# Altium footprint library THT12X6.PcbLib: 1 footprints
Each footprint in its own frame and in the unit in brackets; x right, y up, seen from the top. Pads: shape width x height; smd on the part's side, far side on the other; paste and mask are expansions set on the pad; w line width, h text height; cw(c..) or ccw(c..) is an arc to the next point about the centre after c.
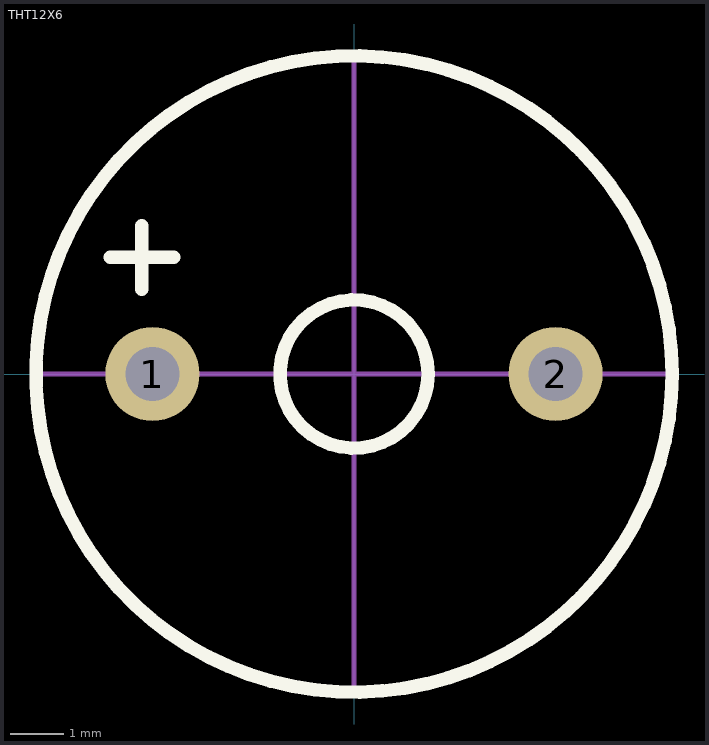
[diagram p0: the footprint, top view; thin cyan lines are the x and y axes]

## THT12X6 [mil] "Buzzer"
pads (2):
  round 70 hole 40: 1(-149.61,0) 2(149.61,0)
Top Overlay:
  circle w10: c0,0 r55
  circle w10: c0,0 r236.22
  lines w10: -181.1,86.61 -133.86,86.61 ; -157.48,62.99 -157.48,110.24
M5:
  lines w3.94: -236.22,0 236.22,0 ; 0,-236.22 0,236.22